# EAGLE library part MA06-1 (library PCB_KioskMB_r3.3-05)
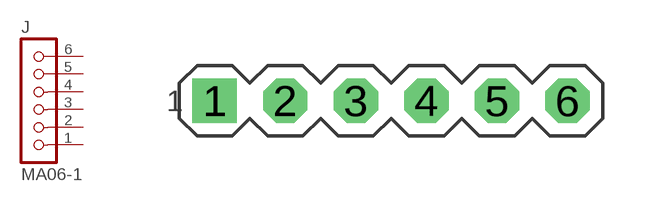
[diagram p6: symbol with the pads of MA06-1; footprint MA06-1]

Designator prefix J

## MA06-1  [MA06-1]
1  1  pas
2  2  pas
3  3  pas
4  4  pas
5  5  pas
6  6  pas

## Footprint MA06-1 (pad centres in mm)
drill 1.016 pad 1.6 square: 1 -6.35,0
drill 1.016 pad 1.6 octagon: 2 -3.81,0; 3 -1.27,0; 4 1.27,0; 5 3.81,0; 6 6.35,0